# EAGLE library part USB-5PIN (library GW-devices)
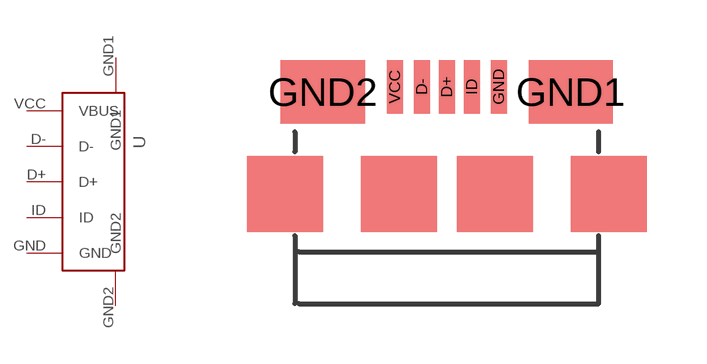
[diagram p18: symbol with the pads of USB-MICROAB-SMT-BOTMT; footprint USB-MICROAB-SMT-BOTMT]

Designator prefix -

## USB-5PINMICROAB-SMT-BOTMT  [USB-MICROAB-SMT-BOTMT]
D+  D+
D-  D-
GND  GND
GND1  GND1
GND2  GND2
ID  ID
VCC  VBUS

## Footprint USB-MICROAB-SMT-BOTMT (pad centres in mm)
smd 0.4 x 1.35: D+ 0,4.125; D- -0.625,4.125; GND 1.3,4.125; ID 0.625,4.125; VCC -1.3,4.125
smd 2.1 x 1.6: GND1 3.1,4; GND2 -3.1,4